# EAGLE library part ZICMEVB03 (library GW-devices)
CEL ZICM2410 module
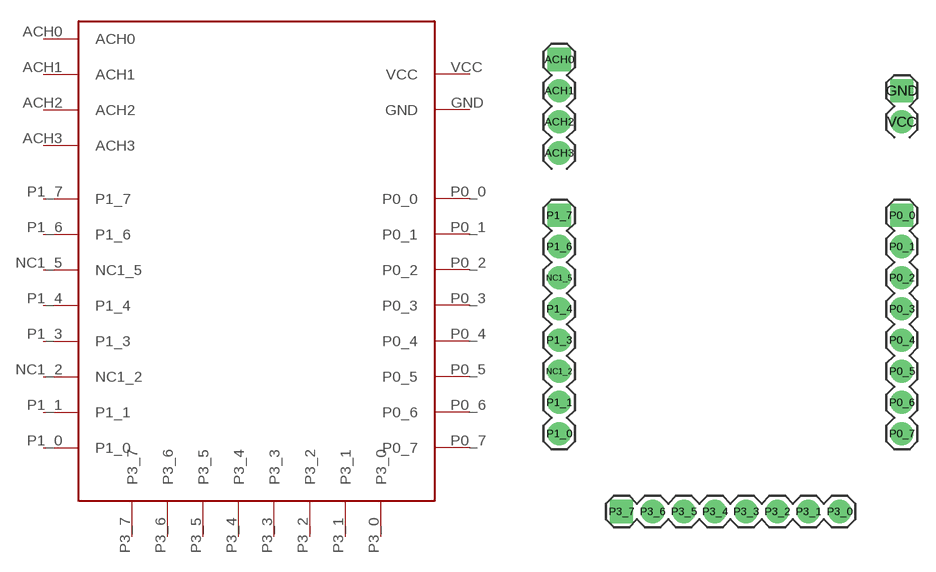
[diagram p32: symbol with the pads of ZICMEVB03; footprint ZICMEVB03]

Designator prefix -

## ZICMEVB03  [ZICMEVB03]
ACH0  ACH0
ACH1  ACH1
ACH2  ACH2
ACH3  ACH3
GND  GND
NC1_2  NC1_2
NC1_5  NC1_5
P0_0  P0_0
P0_1  P0_1
P0_2  P0_2
P0_3  P0_3
P0_4  P0_4
P0_5  P0_5
P0_6  P0_6
P0_7  P0_7
P1_0  P1_0
P1_1  P1_1
P1_3  P1_3
P1_4  P1_4
P1_6  P1_6
P1_7  P1_7
P3_0  P3_0
P3_1  P3_1
P3_2  P3_2
P3_3  P3_3
P3_4  P3_4
P3_5  P3_5
P3_6  P3_6
P3_7  P3_7
VCC  VCC

## Footprint ZICMEVB03 (pad centres in mm)
drill 1.016 pad 1.88 square: ACH0 -13.97,22.86; GND 13.97,20.32; P0_0 13.97,10.16; P1_7 -13.97,10.16; P3_7 -8.89,-13.97
drill 1.016 pad 1.88: ACH1 -13.97,20.32; ACH2 -13.97,17.78; ACH3 -13.97,15.24; NC1_2 -13.97,-2.54; NC1_5 -13.97,5.08; P0_1 13.97,7.62; P0_2 13.97,5.08; P0_3 13.97,2.54; P0_4 13.97,0; P0_5 13.97,-2.54; P0_6 13.97,-5.08; P0_7 13.97,-7.62; P1_0 -13.97,-7.62; P1_1 -13.97,-5.08; P1_3 -13.97,0; P1_4 -13.97,2.54; P1_6 -13.97,7.62; P3_0 8.89,-13.97; P3_1 6.35,-13.97; P3_2 3.81,-13.97; P3_3 1.27,-13.97; P3_4 -1.27,-13.97; P3_5 -3.81,-13.97; P3_6 -6.35,-13.97; VCC 13.97,17.78